# Altium footprint library Protection.PcbLib: 5 footprints
Each footprint in its own frame and in the unit in brackets; x right, y up, seen from the top. Pads: shape width x height; smd on the part's side, far side on the other; paste and mask are expansions set on the pad; w line width, h text height; cw(c..) or ccw(c..) is an arc to the next point about the centre after c.
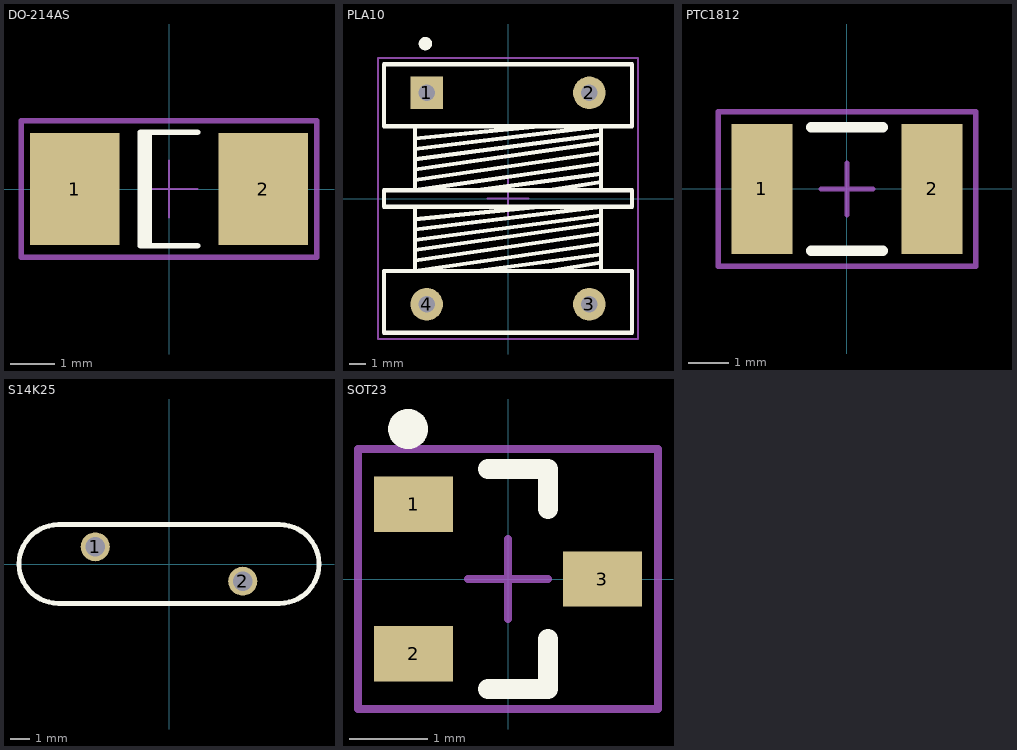
[diagram p0: the footprints below, top view; thin cyan lines are the x and y axes]

## DO-214AS [mm]
pads (2):
  rect 2x2.5 smd: 1(-2.1,0) 2(2.1,0)
Top Overlay:
  rectangle: -0.635,-1.27 -0.381,1.27
  lines w0.127: 0.635,-1.27 -0.635,-1.27 -0.635,1.27 0.635,1.27
Mechanical 15:
  lines w0.05: -0.635,0 0.635,0 ; 0,-0.635 0,0.635
  lines w0.1: 1.651,0 2.921,0 ; 2.286,-0.635 2.286,0.635
  lines w0.127: -3.302,-1.524 -3.302,1.524 3.302,1.524 3.302,-1.524 -3.302,-1.524
3D body "User Library-DO-214AC(SMA).STEP": height 2.3, standoff 0.01, extent -2.743,-1.397 2.743,1.397

## PLA10 [mm]
pads (4):
  rect 2x2 hole 1: 1(-5,6.5)
  round 2 hole 1: 2(5,6.5) 3(5,-6.5) 4(-5,-6.5)
Top Overlay:
  circle w0.254: c-5.08,9.525 r0.284
  circle w0.254: c-5.08,9.525 r0.127
  lines w0.254: -5.715,-3.81 5.715,-2.159 ; -5.715,-3.175 5.715,-1.524 ; -5.715,-2.54 5.717,-1.032 ; -5.715,-1.905 5.715,-0.508 5.715,-4.445 ; -5.715,-1.27 1.905,-0.508 ; -5.715,-0.508 -5.715,-4.445 5.715,-2.794 ; -5.715,1.143 5.715,2.794 ; -5.715,1.778 5.715,3.429 ; -5.715,2.413 5.717,3.921 ; -5.715,3.048 5.715,4.445 5.715,0.635 ; -5.715,3.683 1.905,4.445 ; -5.715,4.445 -5.715,0.508 5.715,2.159 ; -1.905,-4.445 5.715,-3.429 ; -1.905,0.508 5.715,1.524 ; 2.54,-4.445 5.715,-3.937 ; 2.54,0.508 5.715,1.016 ; -7.62,-8.255 7.62,-8.255 7.62,-4.445 -7.62,-4.445 -7.62,-8.255 ; -7.62,-0.508 7.62,-0.508 7.62,0.508 -7.62,0.508 -7.62,-0.508 ; -7.62,4.445 7.62,4.445 7.62,8.255 -7.62,8.255 -7.62,4.445
Mechanical 15:
  lines w0.127: -1.27,0 1.27,0 ; 0,-1.143 0,1.27 ; -8.001,-8.636 8.001,-8.636 8.001,8.636 -8.001,8.636 -8.001,-8.636
3D body "User Library-PLA10.STEP": height 16.3, standoff -3.3, extent -7.5,-8.385 7.5,8.407

## PTC1812 [mm] "Fuse PTC Thermoresistor"
pads (2):
  rect 1.5x3.2 smd: 1(-2.1,0) 2(2.1,0)
Top Overlay:
  lines w0.254: -0.889,-1.524 0.889,-1.524 ; -0.889,1.524 0.889,1.524
Mechanical 15:
  lines w0.127: -0.635,0 0.635,0 ; 0,-0.635 0,0.635 ; -3.175,-1.905 3.175,-1.905 3.175,1.905 -3.175,1.905 -3.175,-1.905
3D body "PTC1812X0_7MM.STEP": height 0.68, standoff -0.02, extent -2.25,-1.6 2.25,1.6

## S14K25 [mm] "Varistor"
pads (2):
  round 1.5 hole 1: 1(-3.81,0.889) 2(3.81,-0.889)
Top Overlay:
  lines w0.254: -5.715,-2.032 cw(c-5.715,0) -5.715,2.032 5.715,2.032 cw(c5.715,0) 5.715,-2.032 -5.715,-2.032
3D body "User Library-S14K25 MOV.STEP": height 18.5, standoff -3, extent -7.75,-2.1 7.75,2.1

## SOT23 [mm]
pads (3):
  rect 1x0.7 smd: 1(-1.2,0.95) 2(-1.2,-0.95) 3(1.2,0)
Top Overlay:
  circle w0.254: c-1.27,1.905 r0.127
  lines w0.254: -0.254,-1.397 0.508,-1.397 0.508,-0.762 ; -0.254,1.397 0.508,1.397 0.508,0.889
Mechanical 15:
  lines w0.1: -0.508,0 0.508,0 ; 0,-0.508 0,0.508 ; -1.905,-1.651 -1.905,1.651 1.905,1.651 1.905,-1.651 -1.905,-1.651
3D body "User Library-SOT95P240X110-3M[SOT23-3_TO-236AB].STEP": height 1.09, standoff 0, extent -1.25,-1.5 1.25,1.5